# EAGLE library part FT230X (library ft230x_10)
USB to Basic UART IC Source: http://www.ftdichip.com/Support/Documents/DataSheets/ICs/DS_FT230X.pdf
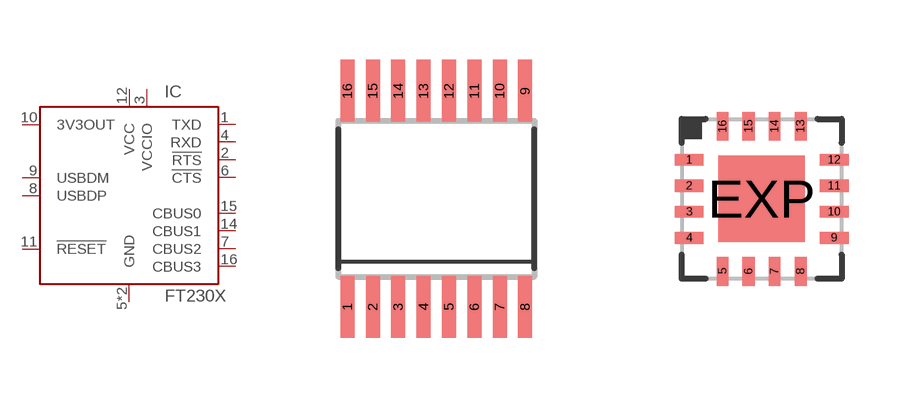
[diagram p0: symbol with the pads of SSOP16; footprints SSOP16, QFN16]

Designator prefix IC

## FT230XS (MF: FTDI; MPN: FT230XS; OC_FARNELL: 2081321; OC_NEWARK: 83T7087)  [SSOP16]
1  TXD  out
2  !RTS  out
3  VCCIO  pwr
4  RXD  in
5  GND  pwr
6  !CTS  in
7  CBUS2
8  USBDP  in
9  USBDM  in
10  3V3OUT  pas
11  !RESET  in
12  VCC  pwr
13  GND  pwr
14  CBUS1
15  CBUS0
16  CBUS3

## FT230XQ (MF: FTDI; MPN: FT230XQ; OC_FARNELL: 2081324; OC_NEWARK: 83T7086)  [QFN16]
1  VCCIO  pwr
2  RXD  in
3  GND  pwr
4  !CTS  in
5  CBUS2
6  USBDP  in
7  USBDM  in
8  3V3OUT  pas
9  !RESET  in
10  VCC  pwr
11  CBUS1
12  CBUS0
13  GND  pwr
14  CBUS3
15  TXD  out
16  !RTS  out
EXP  GND  pwr

## Footprint SSOP16 (pad centres in mm)
SSOP-16 Plastic Shrink Small Outline
smd 0.35 x 1.55: 1 -2.223,-2.7; 2 -1.587,-2.7; 3 -0.953,-2.7; 4 -0.318,-2.7; 5 0.318,-2.7; 6 0.953,-2.7; 7 1.587,-2.7; 8 2.223,-2.7; 9 2.223,2.7; 10 1.587,2.7; 11 0.953,2.7; 12 0.318,2.7; 13 -0.318,2.7; 14 -0.953,2.7; 15 -1.587,2.7; 16 -2.223,2.7

## Footprint QFN16 (pad centres in mm)
QFN-16 Plastic Quad Flat, No Lead
smd 0.725 x 0.3: 1 -1.812,0.975; 2 -1.812,0.325; 3 -1.812,-0.325; 4 -1.812,-0.975; 9 1.812,-0.975; 10 1.812,-0.325; 11 1.812,0.325; 12 1.812,0.975
smd 0.3 x 0.725: 5 -0.975,-1.812; 6 -0.325,-1.812; 7 0.325,-1.812; 8 0.975,-1.812; 13 0.975,1.812; 14 0.325,1.812; 15 -0.325,1.812; 16 -0.975,1.812
smd 2.15 x 2.15: EXP 0,0